# EAGLE library part USD-SOCKET (library Mine)
microSD Socket Push-push type uSD socket. Schematic element and footprint production proven. Spark Fun Electronics SKU : PRT-00127. tDoc lines correctly indicate media card edge positions when inserting (unlocked, locked, depressed).
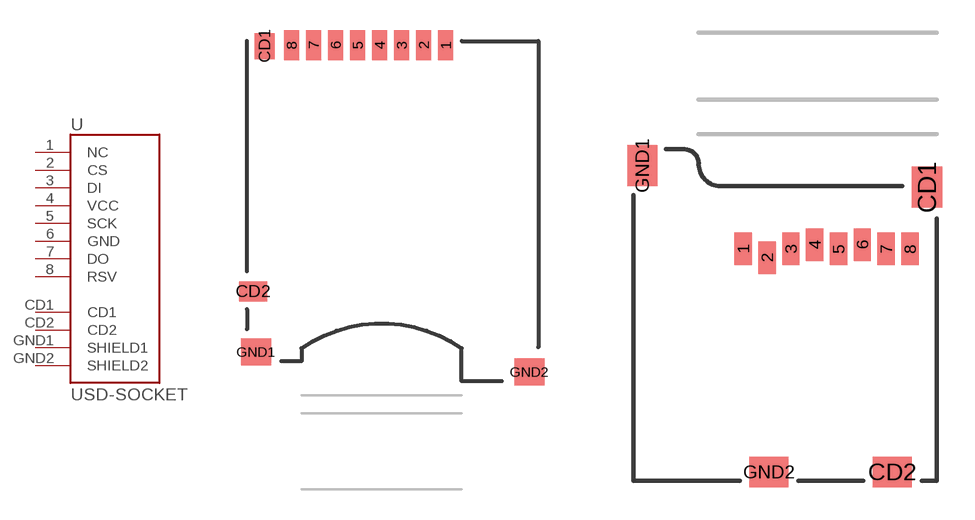
[diagram p35: symbol with the pads of USD-SOCKET-PP; footprints USD-SOCKET-PP, MICRO-SD-SOCKET-PP]

Designator prefix U

## USD-SOCKETUSD  [USD-SOCKET-PP]
1  NC
2  CS
3  DI
4  VCC
5  SCK
6  GND
7  DO
8  RSV
CD1  CD1
CD2  CD2
GND1  SHIELD1
GND2  SHIELD2

## USD-SOCKETNEW  [MICRO-SD-SOCKET-PP]
Pads as for USD-SOCKET-PP

## USD-SOCKET  [MICRO-SD-PUSH-PULL]
1  NC
2  CS
3  DI
4  VCC
5  SCK
6  GND
7  DO
8  RSV
A  CD1
B  CD2
GND  SHIELD1
GND2  SHIELD2

## Footprint USD-SOCKET-PP (pad centres in mm)
smd 0.75 x 1.5: 1 3.2,16.8; 2 2.1,16.8; 3 1,16.8; 4 -0.1,16.8; 5 -1.2,16.8; 6 -2.3,16.8; 7 -3.4,16.8; 8 -4.5,16.8
smd 1 x 1.3: CD1 -5.85,16.75
smd 1.4 x 1: CD2 -6.425,4.5
smd 1.5 x 1.35: GND1 -6.275,1.475; GND2 7.375,0.475

## Footprint MICRO-SD-SOCKET-PP (pad centres in mm)
smd 0.8 x 1.5: 1 -8.94,10.7; 2 -7.84,10.3; 3 -6.74,10.7; 4 -5.64,10.9; 5 -4.54,10.7; 6 -3.44,10.9; 7 -2.34,10.7; 8 -1.24,10.7
smd 1.4 x 1.9: CD1 -0.45,13.55; GND1 -13.6,14.55
smd 1.8 x 1.4: CD2 -2.05,0.4; GND2 -7.75,0.4

## Footprint MICRO-SD-PUSH-PULL (pad centres in mm)
smd 0.6 x 1.75: 1 5.7,-0.8; 2 4.6,-0.8; 3 3.5,-0.8; 4 2.4,-0.8; 5 1.3,-0.8; 6 0.2,-0.8; 7 -0.9,-0.8; 8 -2,-0.8
smd 1 x 1.55: A 8,9.9
smd 1.9 x 1: B -3,8.5
smd 1.3 x 1.5: GND 8.2,-0.7; GND2 -3.2,-0.7
smd 0.8 x 1.4: GND1 8.4,7.6
smd 0.8 x 1.7: GND3 -3.5,6.8